# EAGLE library part FH12-6S-0.5SH(55) (library KVB-connectors)
Hirose FH12-6S-0.5SH(55) 0.5mm Bottom mount FFC 6 Pin
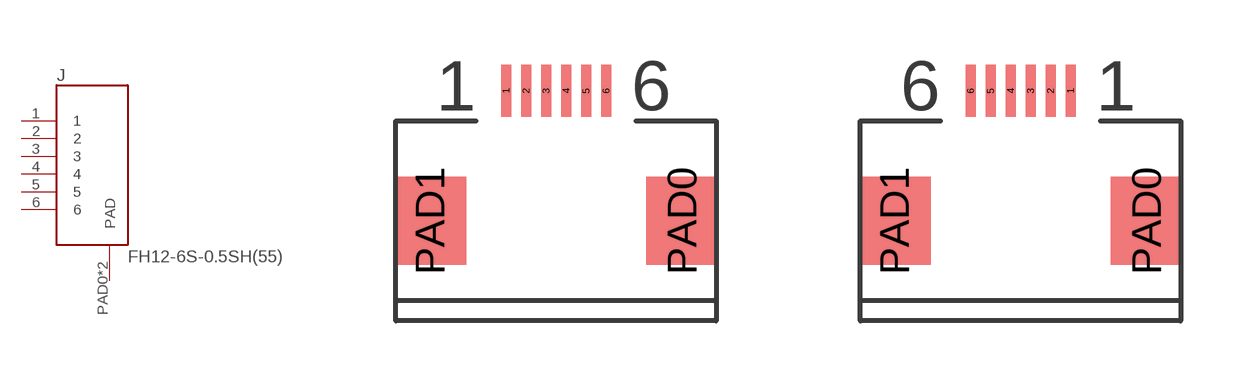
[diagram p7: symbol with the pads of FH12-6S-0.5SH(55)-BASE; footprints FH12-6S-0.5SH(55)-BASE, FH12-6S-0.5SH(55)-REMOTE]

Designator prefix J

## FH12-6S-0.5SH(55)BASE (MAN-PART_NUM: FH12-6S-0.5SH(55); MANUFACTURER: Hirose)  [FH12-6S-0.5SH(55)-BASE]
1  1
2  2
3  3
4  4
5  5
6  6
PAD0  PAD
PAD1  PAD

## FH12-6S-0.5SH(55)REMOTE  [FH12-6S-0.5SH(55)-REMOTE]
Pads as for FH12-6S-0.5SH(55)-BASE

## Footprint FH12-6S-0.5SH(55)-BASE (pad centres in mm)
smd 0.25 x 1.3: 1 -1.25,0; 2 -0.75,0; 3 -0.25,0; 4 0.25,0; 5 0.75,0; 6 1.25,0
smd 1.8 x 2.2: PAD0 3.15,-3.25; PAD1 -3.15,-3.25

## Footprint FH12-6S-0.5SH(55)-REMOTE (pad centres in mm)
smd 0.25 x 1.3: 1 1.25,0.08; 2 0.75,0.08; 3 0.25,0.08; 4 -0.25,0.08; 5 -0.75,0.08; 6 -1.25,0.08
smd 1.8 x 2.2: PAD0 3.15,-3.17; PAD1 -3.15,-3.17